# Altium footprint library IC.PcbLib: 99 footprints (part 2 of 7)
Each footprint in its own frame and in the unit in brackets; x right, y up, seen from the top. Pads: shape width x height; smd on the part's side, far side on the other; paste and mask are expansions set on the pad; w line width, h text height; cw(c..) or ccw(c..) is an arc to the next point about the centre after c.
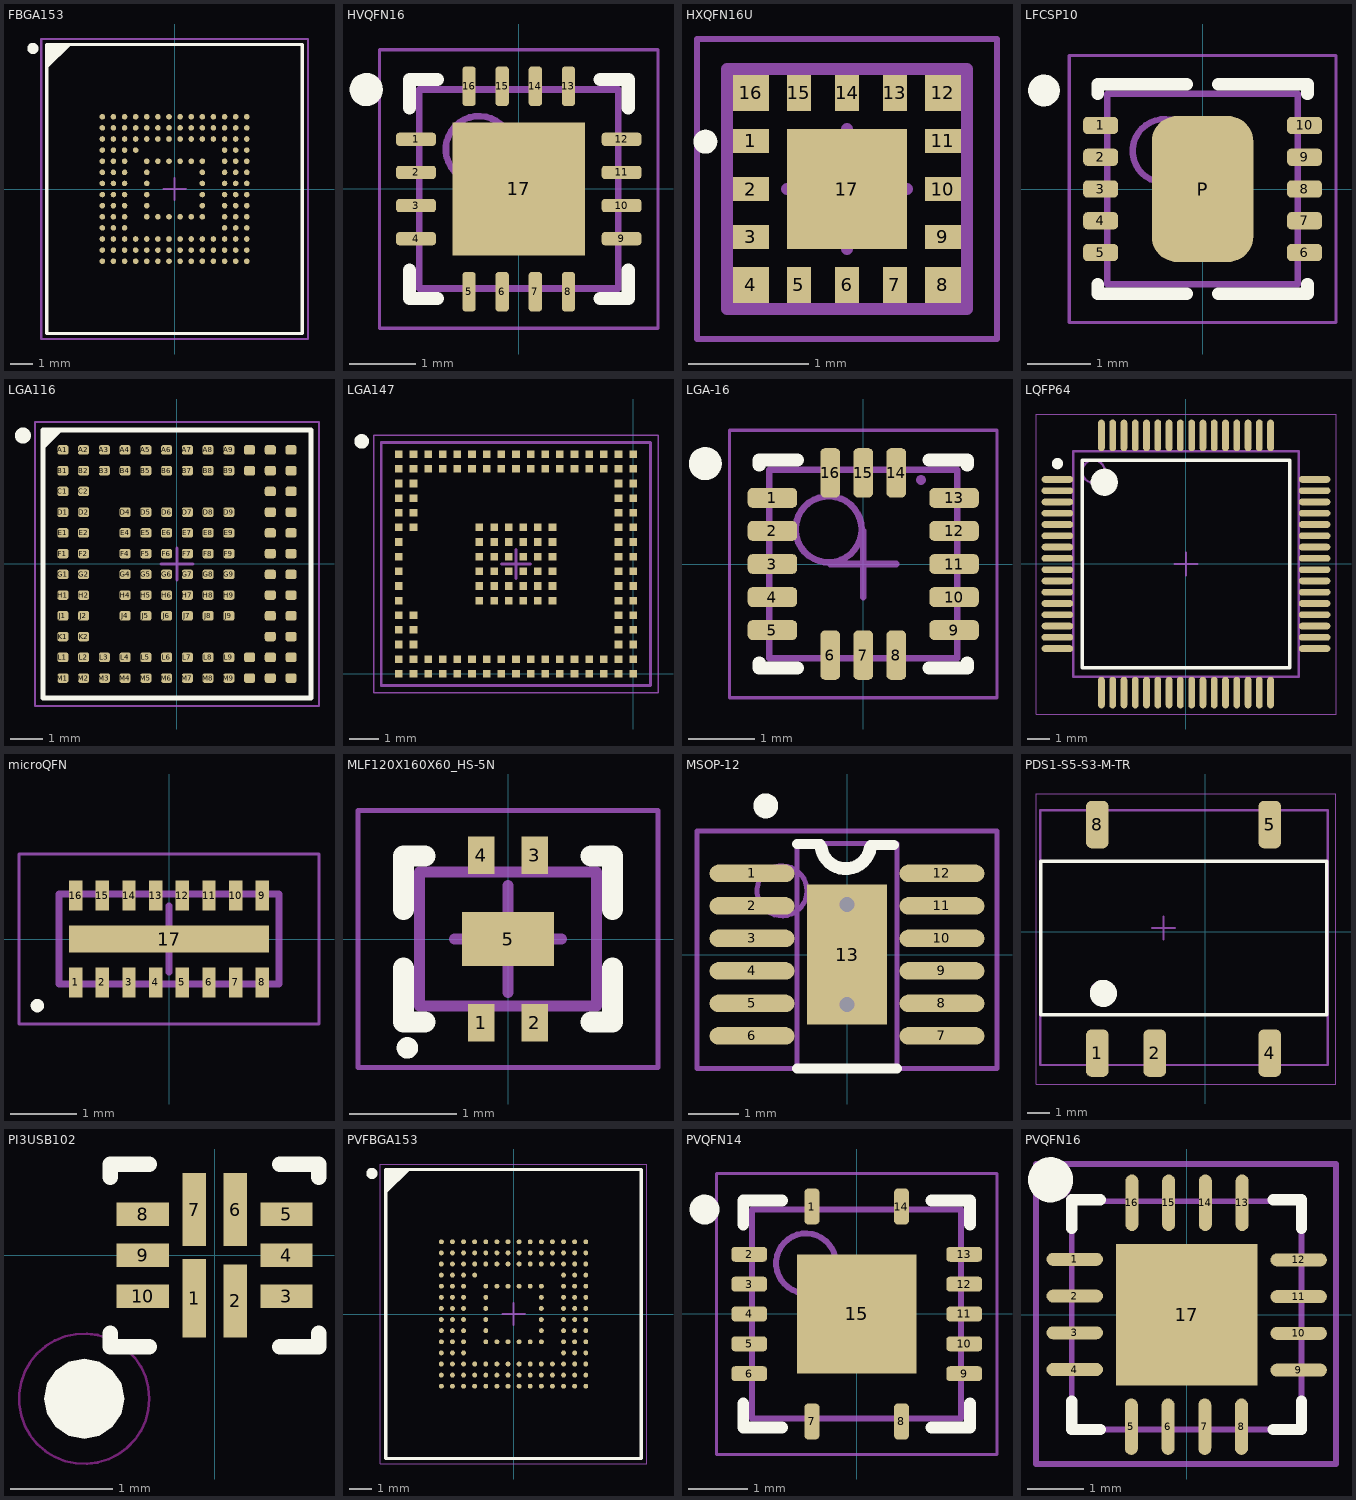
[diagram p1: the footprints below, top view; thin cyan lines are the x and y axes]

## FBGA153 [mm] "FBGA153  (11.5x13.0x1.0)"
height 0.9
pads (153):
  round 0.25 smd mask+0.08: A1(-3.25,3.25) A2(-2.75,3.25) A3(-2.25,3.25) A4(-1.75,3.25) A5(-1.25,3.25) A6(-0.75,3.25) A7(-0.25,3.25) A8(0.25,3.25) A9(0.75,3.25) A10(1.25,3.25) A11(1.75,3.25) A12(2.25,3.25) A13(2.75,3.25) A14(3.25,3.25) B1(-3.25,2.75) B2(-2.75,2.75) B3(-2.25,2.75) B4(-1.75,2.75) B5(-1.25,2.75) B6(-0.75,2.75) B7(-0.25,2.75) B8(0.25,2.75) B9(0.75,2.75) B10(1.25,2.75) B11(1.75,2.75) B12(2.25,2.75) B13(2.75,2.75) B14(3.25,2.75) C1(-3.25,2.25) C2(-2.75,2.25) C3(-2.25,2.25) C4(-1.75,2.25) C5(-1.25,2.25) C6(-0.75,2.25) C7(-0.25,2.25) C8(0.25,2.25) C9(0.75,2.25) C10(1.25,2.25) C11(1.75,2.25) C12(2.25,2.25) C13(2.75,2.25) C14(3.25,2.25) D1(-3.25,1.75) D2(-2.75,1.75) D3(-2.25,1.75) D4(-1.75,1.75) D12(2.25,1.75) D13(2.75,1.75) D14(3.25,1.75) E1(-3.25,1.25) E2(-2.75,1.25) E3(-2.25,1.25) E5(-1.25,1.25) E6(-0.75,1.25) E7(-0.25,1.25) E8(0.25,1.25) E9(0.75,1.25) E10(1.25,1.25) E12(2.25,1.25) E13(2.75,1.25) E14(3.25,1.25) F1(-3.25,0.75) F2(-2.75,0.75) F3(-2.25,0.75) F5(-1.25,0.75) F10(1.25,0.75) F12(2.25,0.75) F13(2.75,0.75) F14(3.25,0.75) G1(-3.25,0.25) G2(-2.75,0.25) G3(-2.25,0.25) G5(-1.25,0.25) G10(1.25,0.25) G12(2.25,0.25) G13(2.75,0.25) G14(3.25,0.25) H1(-3.25,-0.25) H2(-2.75,-0.25) H3(-2.25,-0.25) H5(-1.25,-0.25) H10(1.25,-0.25) H12(2.25,-0.25) H13(2.75,-0.25) H14(3.25,-0.25) J1(-3.25,-0.75) J2(-2.75,-0.75) J3(-2.25,-0.75) J5(-1.25,-0.75) J10(1.25,-0.75) J12(2.25,-0.75) J13(2.75,-0.75) J14(3.25,-0.75) K1(-3.25,-1.25) K2(-2.75,-1.25) K3(-2.25,-1.25) K5(-1.25,-1.25) K6(-0.75,-1.25) K7(-0.25,-1.25) K8(0.25,-1.25) K9(0.75,-1.25) K10(1.25,-1.25) K12(2.25,-1.25) K13(2.75,-1.25) K14(3.25,-1.25) L1(-3.25,-1.75) L2(-2.75,-1.75) L3(-2.25,-1.75) L12(2.25,-1.75) L13(2.75,-1.75) L14(3.25,-1.75) M1(-3.25,-2.25) M2(-2.75,-2.25) M3(-2.25,-2.25) M4(-1.75,-2.25) M5(-1.25,-2.25) M6(-0.75,-2.25) M7(-0.25,-2.25) M8(0.25,-2.25) M9(0.75,-2.25) M10(1.25,-2.25) M11(1.75,-2.25) M12(2.25,-2.25) M13(2.75,-2.25) M14(3.25,-2.25) N1(-3.25,-2.75) N2(-2.75,-2.75) N3(-2.25,-2.75) N4(-1.75,-2.75) N5(-1.25,-2.75) N6(-0.75,-2.75) N7(-0.25,-2.75) N8(0.25,-2.75) N9(0.75,-2.75) N10(1.25,-2.75) N11(1.75,-2.75) N12(2.25,-2.75) N13(2.75,-2.75) N14(3.25,-2.75) P1(-3.25,-3.25) P2(-2.75,-3.25) P3(-2.25,-3.25) P4(-1.75,-3.25) P5(-1.25,-3.25) P6(-0.75,-3.25) P7(-0.25,-3.25) P8(0.25,-3.25) P9(0.75,-3.25) P10(1.25,-3.25) P11(1.75,-3.25) P12(2.25,-3.25) P13(2.75,-3.25) P14(3.25,-3.25)
Top Overlay:
  circle w0.25: c-6.375,6.325 r0.125
  region: -4.75,6.5 -5.75,5.5 -5.75,6.5
  lines w0.15: -5.75,5.5 -4.75,6.5 ; -5.75,-6.5 5.75,-6.5 5.75,6.5 -5.75,6.5 -5.75,-6.5
Mechanical 13:
  lines w0.1: -5.75,-6.5 5.75,-6.5 5.75,6.5 -5.75,6.5 -5.75,-6.5
  text ".Designator" at -5.547,6.977 h0.5
Mechanical 15:
  lines w0.1: -0.5,0 0.5,0 ; 0,-0.5 0,0.5 ; -6,-6.75 6,-6.75 6,6.75 -6,6.75 -6,-6.75
3D body: height 0.9, standoff 0.2, extent -5.75,-6.5 5.75,6.5

## HVQFN16 [mm] "HVQFN16: plastic thermal enhanced very thin quad flat package; no leads;  16 terminals; body 3 x 3 x 0.85 mm"
height 1
pads (17):
  rrect50% 0.6x0.2 smd mask+0.1: 1(-1.55,0.75) 2(-1.55,0.25) 3(-1.55,-0.25) 4(-1.55,-0.75) 9(1.55,-0.75) 10(1.55,-0.25) 11(1.55,0.25) 12(1.55,0.75)
  rrect50% 0.2x0.6 smd mask+0.1: 5(-0.75,-1.55) 6(-0.25,-1.55) 7(0.25,-1.55) 8(0.75,-1.55) 13(0.75,1.55) 14(0.25,1.55) 15(-0.25,1.55) 16(-0.75,1.55)
  rect 2x2 smd: 17(0,0)
Top Overlay:
  circle w0.25: c-2.3,1.5 r0.125
  lines w0.2: -1.65,-1.225 -1.65,-1.65 -1.225,-1.65 ; -1.65,1.225 -1.65,1.65 -1.225,1.65 ; 1.225,-1.65 1.65,-1.65 1.65,-1.225 ; 1.225,1.65 1.65,1.65 1.65,1.225
Mechanical 13:
  circle w0.1: c-0.6,0.6 r0.5
  lines w0.1: -1.5,-1.5 1.5,-1.5 1.5,1.5 -1.5,1.5 -1.5,-1.5
  text ".Designator" at -1.889,2.303 h0.5
Mechanical 15:
  lines w0.05: -2.1,-2.1 2.1,-2.1 2.1,2.1 -2.1,2.1 -2.1,-2.1
  lines w0.1: -0.5,0 0.5,0 ; 0,-0.5 0,0.5
3D body: height 1, standoff 0.05, extent -1.5,-1.5 1.5,1.5

## HXQFN16U [mm] "HXQFN16U: plastic thermal enhanced extremely thin quad flat package"
height 0.5
pads (17):
  rect 0.3x0.2 smd mask+0.05: 1(-3.2,2.8) 2(-3.2,2.4) 3(-3.2,2) 9(-1.6,2) 10(-1.6,2.4) 11(-1.6,2.8)
  rect 0.3x0.3 smd mask+0.05: 4(-3.2,1.6) 8(-1.6,1.6) 12(-1.6,3.2) 16(-3.2,3.2)
  rect 0.2x0.3 smd mask+0.05: 5(-2.8,1.6) 6(-2.4,1.6) 7(-2,1.6) 13(-2,3.2) 14(-2.4,3.2) 15(-2.8,3.2)
  rect 1x1 smd mask+0.05: 17(-2.4,2.4)
Top Overlay:
  circle w0.1: c-3.581,2.794 r0.05
Mechanical 13:
  lines w0.1: -3.4,1.4 -1.4,1.4 -1.4,3.4 -3.4,3.4 -3.4,1.4
  text ".Designator" at -4.15,3.777 h0.5
Mechanical 15:
  lines w0.05: -3.65,1.15 -1.15,1.15 -1.15,3.65 -3.65,3.65 -3.65,1.15
  lines w0.1: -2.9,2.4 -1.9,2.4 ; -2.4,1.9 -2.4,2.9
3D body: height 0.5, standoff 0.02, extent -3.4,1.4 -1.4,3.4

## LFCSP10 [mm]
height 0.9
pads (11):
  rrect50% 0.55x0.27 smd mask+0.07: 1(-1.605,1) 2(-1.605,0.5) 3(-1.605,0) 4(-1.605,-0.5) 5(-1.605,-1) 6(1.605,-1) 7(1.605,-0.5) 8(1.605,0) 9(1.605,0.5) 10(1.605,1)
  rrect50% 1.6x2.3 smd mask+0.04: P(0,0)
Top Overlay:
  circle w0.25: c-2.497,1.55 r0.125
  lines w0.2: -1.65,-1.5 -1.65,-1.65 -0.25,-1.65 ; -1.65,1.5 -1.65,1.65 -0.25,1.65 ; 0.25,-1.65 1.65,-1.65 1.65,-1.5 ; 0.25,1.65 1.65,1.65 1.65,1.5
Mechanical 13:
  circle w0.1: c-0.6,0.6 r0.5
  lines w0.1: -1.5,-1.5 -1.5,1.5 1.5,1.5 1.5,-1.5 -1.5,-1.5
Mechanical 15:
  lines w0.05: -2.1,-2.1 -2.1,2.1 2.1,2.1 2.1,-2.1 -2.1,-2.1
  lines w0.1: -0.5,0 0.5,0 ; 0,-0.5 0,0.5
3D body: height 0.9, standoff 0.08, extent -1.5,-1.5 1.5,1.5

## LGA116 [mm] "AR6233 - LGA116"
height 1.16
pads (116):
  rrect50% 0.35x0.3 smd: A1(-3.575,3.575) A2(-2.925,3.575) A3(-2.275,3.575) A4(-1.625,3.575) A5(-0.975,3.575) A6(-0.325,3.575) A7(0.325,3.575) A8(0.975,3.575) A9(1.625,3.575) A10(2.275,3.575) A11(2.925,3.575) A12(3.575,3.575) B1(-3.575,2.925) B2(-2.925,2.925) B3(-2.275,2.925) B4(-1.625,2.925) B5(-0.975,2.925) B6(-0.325,2.925) B7(0.325,2.925) B8(0.975,2.925) B9(1.625,2.925) B10(2.275,2.925) B11(2.925,2.925) B12(3.575,2.925) C1(-3.575,2.275) C2(-2.925,2.275) C11(2.925,2.275) C12(3.575,2.275) D1(-3.575,1.625) D2(-2.925,1.625) D4(-1.625,1.625) D5(-0.975,1.625) D6(-0.325,1.625) D7(0.325,1.625) D8(0.975,1.625) D9(1.625,1.625) D11(2.925,1.625) D12(3.575,1.625) E1(-3.575,0.975) E2(-2.925,0.975) E4(-1.625,0.975) E5(-0.975,0.975) E6(-0.325,0.975) E7(0.325,0.975) E8(0.975,0.975) E9(1.625,0.975) E11(2.925,0.975) E12(3.575,0.975) F1(-3.575,0.325) F2(-2.925,0.325) F4(-1.625,0.325) F5(-0.975,0.325) F6(-0.325,0.325) F7(0.325,0.325) F8(0.975,0.325) F9(1.625,0.325) F11(2.925,0.325) F12(3.575,0.325) G1(-3.575,-0.325) G2(-2.925,-0.325) G4(-1.625,-0.325) G5(-0.975,-0.325) G6(-0.325,-0.325) G7(0.325,-0.325) G8(0.975,-0.325) G9(1.625,-0.325) G11(2.925,-0.325) G12(3.575,-0.325) H1(-3.575,-0.975) H2(-2.925,-0.975) H4(-1.625,-0.975) H5(-0.975,-0.975) H6(-0.325,-0.975) H7(0.325,-0.975) H8(0.975,-0.975) H9(1.625,-0.975) H11(2.925,-0.975) H12(3.575,-0.975) J1(-3.575,-1.625) J2(-2.925,-1.625) J4(-1.625,-1.625) J5(-0.975,-1.625) J6(-0.325,-1.625) J7(0.325,-1.625) J8(0.975,-1.625) J9(1.625,-1.625) J11(2.925,-1.625) J12(3.575,-1.625) K1(-3.575,-2.275) K2(-2.925,-2.275) K11(2.925,-2.275) K12(3.575,-2.275) L1(-3.575,-2.925) L2(-2.925,-2.925) L3(-2.275,-2.925) L4(-1.625,-2.925) L5(-0.975,-2.925) L6(-0.325,-2.925) L7(0.325,-2.925) L8(0.975,-2.925) L9(1.625,-2.925) L10(2.275,-2.925) L11(2.925,-2.925) L12(3.575,-2.925) M1(-3.575,-3.575) M2(-2.925,-3.575) M3(-2.275,-3.575) M4(-1.625,-3.575) M5(-0.975,-3.575) M6(-0.325,-3.575) M7(0.325,-3.575) M8(0.975,-3.575) M9(1.625,-3.575) M10(2.275,-3.575) M11(2.925,-3.575) M12(3.575,-3.575)
Top Overlay:
  circle w0.25: c-4.825,4.025 r0.125
  region: -3.657,4.2 -4.2,3.657 -4.2,4.2
  lines w0.15: -4.2,3.657 -3.657,4.2 ; -4.2,-4.2 -4.2,4.2 4.2,4.2 4.2,-4.2 -4.2,-4.2
Mechanical 13:
  lines w0.1: -4.2,-4.2 -4.2,4.2 4.2,4.2 4.2,-4.2 -4.2,-4.2
  text ".Designator" at -3.921,4.64 h0.5
Mechanical 15:
  lines w0.05: -4.45,-4.45 -4.45,4.45 4.45,4.45 4.45,-4.45 -4.45,-4.45
  lines w0.1: -0.5,0 0.5,0 ; 0,-0.5 0,0.5
3D body: height 1.16, standoff 0.44, extent -4.2,-4.2 4.2,4.2

## LGA147 [mm]
height 1.02
pads (147):
  rect 0.26x0.26 smd mask+0.05: A1(-8,7.5) A2(-7.5,7.5) A3(-7,7.5) A4(-6.5,7.5) A5(-6,7.5) A6(-5.5,7.5) A7(-5,7.5) A8(-4.5,7.5) A9(-4,7.5) A10(-3.5,7.5) A11(-3,7.5) A12(-2.5,7.5) A13(-2,7.5) A14(-1.5,7.5) A15(-1,7.5) A16(-0.5,7.5) A17(0,7.5) B1(-8,7) B2(-7.5,7) B3(-7,7) B4(-6.5,7) B5(-6,7) B6(-5.5,7) B7(-5,7) B8(-4.5,7) B9(-4,7) B10(-3.5,7) B11(-3,7) B12(-2.5,7) B13(-2,7) B14(-1.5,7) B15(-1,7) B16(-0.5,7) B17(0,7) C1(-8,6.5) C2(-7.5,6.5) C16(-0.5,6.5) C17(0,6.5) D1(-8,6) D2(-7.5,6) D16(-0.5,6) D17(0,6) E1(-8,5.5) E2(-7.5,5.5) E16(-0.5,5.5) E17(0,5.5) E_GND1(-5.248,5) E_GND2(-4.748,5) E_GND3(-4.248,5) E_GND4(-3.754,5) E_GND5(-3.254,5) E_GND6(-2.754,5) E_GND7(-5.248,4.5) E_GND8(-4.748,4.5) E_GND9(-4.248,4.5) E_GND10(-3.754,4.5) E_GND11(-3.254,4.5) E_GND12(-2.754,4.5) E_GND13(-5.248,4) E_GND14(-4.748,4) E_GND15(-4.248,4) E_GND16(-3.754,4) E_GND17(-3.254,4) E_GND18(-2.754,4) E_GND19(-5.248,3.5) E_GND20(-4.748,3.5) E_GND21(-4.248,3.5) E_GND22(-3.754,3.5) E_GND23(-3.254,3.5) E_GND24(-2.754,3.5) E_GND25(-5.248,3) E_GND26(-4.748,3) E_GND27(-4.248,3) E_GND28(-3.754,3) E_GND29(-3.254,3) E_GND30(-2.754,3) E_GND31(-5.248,2.5) E_GND32(-4.748,2.5) E_GND33(-4.248,2.5) E_GND34(-3.754,2.5) E_GND35(-3.254,2.5) E_GND36(-2.754,2.5) F1(-8,5) F2(-7.5,5) F16(-0.5,5) F17(0,5) G1(-8,4.5) G16(-0.5,4.5) G17(0,4.5) H1(-8,4) H16(-0.5,4) H17(0,4) J1(-8,3.5) J16(-0.5,3.5) J17(0,3.5) K1(-8,3) K16(-0.5,3) K17(0,3) L1(-8,2.5) L16(-0.5,2.5) L17(0,2.5) M1(-8,2) M2(-7.5,2) M16(-0.5,2) M17(0,2) N1(-8,1.5) N2(-7.5,1.5) N16(-0.5,1.5) N17(0,1.5) P1(-8,1) P2(-7.5,1) P16(-0.5,1) P17(0,1) R1(-8,0.5) R2(-7.5,0.5) R3(-7,0.5) R4(-6.5,0.5) R5(-6,0.5) R6(-5.5,0.5) R7(-5,0.5) R8(-4.5,0.5) R9(-4,0.5) R10(-3.5,0.5) R11(-3,0.5) R12(-2.5,0.5) R13(-2,0.5) R14(-1.5,0.5) R15(-1,0.5) R16(-0.5,0.5) R17(0,0.5) T1(-8,0) T2(-7.5,0) T3(-7,0) T4(-6.5,0) T5(-6,0) T6(-5.5,0) T7(-5,0) T8(-4.5,0) T9(-4,0) T10(-3.5,0) T11(-3,0) T12(-2.5,0) T13(-2,0) T14(-1.5,0) T15(-1,0) T16(-0.5,0) T17(0,0)
Top Overlay:
  circle w0.25: c-9.269,7.938 r0.125
Mechanical 13:
  lines w0.1: -8.6,-0.4 -8.6,7.9 0.6,7.9 0.6,-0.4 -8.6,-0.4
Mechanical 15:
  lines w0.05: -8.85,-0.65 -8.85,8.15 0.85,8.15 0.85,-0.65 -8.85,-0.65
  lines w0.1: -4.5,3.75 -3.5,3.75 ; -4,3.25 -4,4.25
3D body: height 1.02, standoff 0.32, extent -8.6,-0.4 0.6,7.9

## LGA-16 [mm]
height 1
pads (16):
  rrect50% 0.75x0.3 smd paste+0.05 mask+0: 1(-1.375,1) 2(-1.375,0.5) 3(-1.375,0) 4(-1.375,-0.5) 5(-1.375,-1) 9(1.375,-1) 10(1.375,-0.5) 11(1.375,0) 12(1.375,0.5) 13(1.375,1)
  rrect50% 0.3x0.75 smd paste+0.05 mask+0: 6(-0.5,-1.379) 7(0,-1.379) 8(0.5,-1.379) 14(0.5,1.379) 15(0,1.379) 16(-0.5,1.379)
Top Overlay:
  circle w0.25: c-2.393,1.52 r0.125
  lines w0.2: -1.575,-1.5 -1.575,-1.575 -1,-1.575 ; -1.575,1.5 -1.575,1.575 -1,1.575 ; 1,-1.575 1.575,-1.575 1.575,-1.5 ; 1,1.575 1.575,1.575 1.575,1.5
Mechanical 13:
  circle w0.1: c-0.525,0.525 r0.5
  lines w0.1: -1.425,-1.425 1.425,-1.425 1.425,1.425 -1.425,1.425 -1.425,-1.425
Mechanical 15:
  lines w0.05: -2.025,-2.025 2.025,-2.025 2.025,2.025 -2.025,2.025 -2.025,-2.025
  lines w0.1: -0.5,0 0.5,0 ; 0,-0.5 0,0.5
  lines w0.15: 0.875,1.275 0.875,1.275
3D body: height 1, standoff 0.05, extent -1.425,-1.425 1.425,1.425

## LQFP64 [mm]
height 1.6
pads (64):
  oval 1.4x0.3 smd mask+0: 1(-5.7,3.75) 2(-5.7,3.25) 3(-5.7,2.75) 4(-5.7,2.25) 5(-5.7,1.75) 6(-5.7,1.25) 7(-5.7,0.75) 8(-5.7,0.25) 9(-5.7,-0.25) 10(-5.7,-0.75) 11(-5.7,-1.25) 12(-5.7,-1.75) 13(-5.7,-2.25) 14(-5.7,-2.75) 15(-5.7,-3.25) 16(-5.7,-3.75) 33(5.7,-3.75) 34(5.7,-3.25) 35(5.7,-2.75) 36(5.7,-2.25) 37(5.7,-1.75) 38(5.7,-1.25) 39(5.7,-0.75) 40(5.7,-0.25) 41(5.7,0.25) 42(5.7,0.75) 43(5.7,1.25) 44(5.7,1.75) 45(5.7,2.25) 46(5.7,2.75) 47(5.7,3.25) 48(5.7,3.75)
  oval 0.3x1.4 smd mask+0: 17(-3.75,-5.7) 18(-3.25,-5.7) 19(-2.75,-5.7) 20(-2.25,-5.7) 21(-1.75,-5.7) 22(-1.25,-5.7) 23(-0.75,-5.7) 24(-0.25,-5.7) 25(0.25,-5.7) 26(0.75,-5.7) 27(1.25,-5.7) 28(1.75,-5.7) 29(2.25,-5.7) 30(2.75,-5.7) 31(3.25,-5.7) 32(3.75,-5.7) 49(3.75,5.7) 50(3.25,5.7) 51(2.75,5.7) 52(2.25,5.7) 53(1.75,5.7) 54(1.25,5.7) 55(0.75,5.7) 56(0.25,5.7) 57(-0.25,5.7) 58(-0.75,5.7) 59(-1.25,5.7) 60(-1.75,5.7) 61(-2.25,5.7) 62(-2.75,5.7) 63(-3.25,5.7) 64(-3.75,5.7)
Top Overlay:
  circle w0.25: c-5.7,4.45 r0.125
  circle w0.6: c-3.625,3.625 r0.3
  lines w0.15: -4.6,-4.6 -4.6,4.6 4.6,4.6 4.6,-4.6 -4.6,-4.6
Mechanical 13:
  circle w0.1: c-4.1,4.1 r0.5
  lines w0.1: -5,-5 -5,5 5,5 5,-5 -5,-5
Mechanical 15:
  lines w0.05: -6.65,-6.65 -6.65,6.65 6.65,6.65 6.65,-6.65 -6.65,-6.65
  lines w0.1: -0.5,0 0.5,0 ; 0,-0.5 0,0.5
3D body: height 1.6, standoff 0, extent -6.005,-6 5.995,6

## microQFN [mm] "8 lines IPAD low capacitance EMI filter and ESD protection in thin micro QFN"
height 0.45
pads (17):
  rect 0.2x0.45 smd mask+0.05: 1(-1.4,-0.65) 2(-1,-0.65) 3(-0.6,-0.65) 4(-0.2,-0.65) 5(0.2,-0.65) 6(0.6,-0.65) 7(1,-0.65) 8(1.4,-0.65) 9(1.4,0.65) 10(1,0.65) 11(0.6,0.65) 12(0.2,0.65) 13(-0.2,0.65) 14(-0.6,0.65) 15(-1,0.65) 16(-1.4,0.65)
  rect 3x0.4 smd mask+0.05: 17(0,0)
Top Overlay:
  circle w0.1: c-1.975,-1 r0.05
Mechanical 13:
  lines w0.1: -1.65,-0.675 1.65,-0.675 1.65,0.675 -1.65,0.675 -1.65,-0.675
  text ".Designator" at -1.635,1.186 h0.5
Mechanical 15:
  lines w0.05: -2.25,-1.275 2.25,-1.275 2.25,1.275 -2.25,1.275 -2.25,-1.275
  lines w0.1: -0.5,0 0.5,0 ; 0,-0.5 0,0.5
3D body: height 0.45, standoff 0.02, extent -1.65,-0.675 1.65,0.675

## MLF120X160X60_HS-5N [mm] "MLF, 4-Leads, Body 1.20x1.60mm, Pitch 0.50mm, Thermal Pad 0.86x0.50mm, IPC Medium Density"
height 0.6
pads (5):
  rect 0.25x0.35 smd mask+0.05: 1(-0.25,-0.78) 2(0.25,-0.78) 3(0.25,0.78) 4(-0.25,0.78)
  rect 0.86x0.5 smd: 5(0,0)
Top Overlay:
  circle w0.1: c-0.939,-1.016 r0.05
  lines w0.2: -0.975,-0.275 -0.975,-0.775 -0.775,-0.775 ; -0.975,0.275 -0.975,0.775 -0.775,0.775 ; 0.775,-0.775 0.975,-0.775 0.975,-0.275 ; 0.775,0.775 0.975,0.775 0.975,0.275
Mechanical 13:
  lines w0.1: -0.825,-0.625 0.825,-0.625 0.825,0.625 -0.825,0.625 -0.825,-0.625
  text ".Designator" at -1.787,1.237 h0.5
Mechanical 15:
  lines w0.05: -1.4,-1.2 1.4,-1.2 1.4,1.2 -1.4,1.2 -1.4,-1.2
  lines w0.1: -0.5,0 0.5,0 ; 0,-0.5 0,0.5
3D body: height 0.6, standoff 0.05, extent -0.825,-0.625 0.825,0.625

## MSOP-12 [mm]
height 1.2
pads (13):
  oval 1.7x0.35 smd: 1(-1.9,1.625) 2(-1.9,0.975) 3(-1.9,0.325) 4(-1.9,-0.325) 5(-1.9,-0.975) 6(-1.9,-1.625) 7(1.9,-1.625) 8(1.9,-0.975) 9(1.9,-0.325) 10(1.9,0.325) 11(1.9,0.975) 12(1.9,1.625)
  rect 1.6x2.8 smd paste-5 mask-5: 13(0,0)
via 0,-1 diameter 0.6 hole 0.3
via 0,1 diameter 0.6 hole 0.3
Top Overlay:
  circle w0.25: c-1.625,2.975 r0.125
  lines w0.2: -1,-2.275 1,-2.275 ; -1,2.21 -0.533,2.21 ; 0.474,2.195 0.941,2.195
  lines w0.254: -0.518,2.132 ccw(c-0.025,2.22) 0.468,2.14
Top Paste:
  region: -0.787,1.397 -0.787,-1.397 -0.279,-1.397 -0.279,-0.711 0.279,-0.711 0.279,-1.397 0.813,-1.397 0.813,1.397 0.279,1.397 0.279,0.711 -0.305,0.711 -0.305,1.397
Top Solder:
  region: -0.787,1.397 -0.787,-1.397 -0.279,-1.397 -0.279,-0.711 0.279,-0.711 0.279,-1.397 0.813,-1.397 0.813,1.397 0.279,1.397 0.279,0.711 -0.305,0.711 -0.305,1.397
Mechanical 13:
  circle w0.1: c-1.3,1.275 r0.5
  lines w0.1: -1,-2.275 -1,2.225 1,2.225 1,-2.275 -1,-2.275
  text ".Designator" at -1.854,2.565 h0.5
Mechanical 15:
  lines w0.1: -0.5,0 0.5,0 ; 0,-0.5 0,0.5 ; -3,-2.275 -3,2.475 3,2.475 3,-2.275 -3,-2.275
3D body: height 1.2, standoff 0.1, extent -1,-2.275 1,2.225

## PDS1-S5-S3-M-TR [mm] "DC/DC CONVERTER +/-5V 1W"
height 2.65
pads (5):
  rrect50% 1x2.1 smd: 1(-4.77,-5.37) 2(-2.23,-5.37) 4(2.85,-5.37) 5(2.85,4.73) 8(-4.77,4.73)
Top Overlay:
  circle w0.6: c-4.505,-2.73 r0.3
  lines w0.15: -7.27,-3.68 -7.27,3.11 5.365,3.11 5.365,-3.68 -7.27,-3.68
Mechanical 13:
  circle w0.1: c-4.555,-2.695 r0.5
  lines w0.1: -7.295,-5.89 -7.295,5.36 5.41,5.36 5.41,-5.89 -7.295,-5.89
Mechanical 15:
  lines w0.05: -7.48,6.095 -7.48,-6.75 5.775,-6.75 5.775,6.095 -7.475,6.095
  lines w0.1: -2.345,0.155 -1.345,0.155 ; -1.845,-0.345 -1.845,0.655
3D body: height 7, standoff -0.25, extent -7.31,-5.897 5.39,5.347

## PI3USB102 [mil] "PI3USB102"
pads (10):
  rect 9x30 smd mask+1.97: 1(-7.87,-16.5)
  rect 9x28 smd mask+1.97: 2(7.87,-17.5) 6(7.87,17.5) 7(-7.87,17.5)
  rect 20x9 smd mask+1.97: 3(27.56,-15.75) 4(27.56,0) 5(27.56,15.75) 8(-27.56,15.75) 9(-27.56,0) 10(-27.56,-15.75)
Top Layer keep-out:
  circle w1: c-50,-55 r25
Top Overlay:
  pour cut-out: -50,-70.29 -44.15,-69.13 -39.19,-65.81 -35.87,-60.85 -34.71,-55 -35.87,-49.15 -39.19,-44.19 -44.15,-40.87 -50,-39.71 -55.85,-40.87 -60.81,-44.19 -64.13,-49.15 -65.29,-55 -64.13,-60.85 -60.81,-65.81 -55.85,-69.13
  lines w6: -40,-30 -40,-35 -25,-35 ; -40,30 -40,35 -25,35 ; 25,-35 40,-35 40,-30 ; 25,35 40,35 40,30
Top Solder:
  pour cut-out: -40.06,-22.75 -40.06,22.75 40.06,22.75 40.06,-22.75
  pour cut-out: -14.87,-32.25 -14.87,32.25 14.87,32.25 14.87,-32.25
Mechanical 13:
  text ".Designator" at -69.37,44.69 h19.68

## PVFBGA153 [mm] "BGA, 153-Leads, Body 11,50x13,00mmx0,90mm, Pitch 0,50mm"
height 0.9
pads (153):
  round 0.22 smd mask+0.08: A1(-3.25,3.25) A2(-2.75,3.25) A3(-2.25,3.25) A4(-1.75,3.25) A5(-1.25,3.25) A6(-0.75,3.25) A7(-0.25,3.25) A8(0.25,3.25) A9(0.75,3.25) A10(1.25,3.25) A11(1.75,3.25) A12(2.25,3.25) A13(2.75,3.25) A14(3.25,3.25) B1(-3.25,2.75) B2(-2.75,2.75) B3(-2.25,2.75) B4(-1.75,2.75) B5(-1.25,2.75) B6(-0.75,2.75) B7(-0.25,2.75) B8(0.25,2.75) B9(0.75,2.75) B10(1.25,2.75) B11(1.75,2.75) B12(2.25,2.75) B13(2.75,2.75) B14(3.25,2.75) C1(-3.25,2.25) C2(-2.75,2.25) C3(-2.25,2.25) C4(-1.75,2.25) C5(-1.25,2.25) C6(-0.75,2.25) C7(-0.25,2.25) C8(0.25,2.25) C9(0.75,2.25) C10(1.25,2.25) C11(1.75,2.25) C12(2.25,2.25) C13(2.75,2.25) C14(3.25,2.25) D1(-3.25,1.75) D2(-2.75,1.75) D3(-2.25,1.75) D4(-1.75,1.75) D12(2.25,1.75) D13(2.75,1.75) D14(3.25,1.75) E1(-3.25,1.25) E2(-2.75,1.25) E3(-2.25,1.25) E5(-1.25,1.25) E6(-0.75,1.25) E7(-0.25,1.25) E8(0.25,1.25) E9(0.75,1.25) E10(1.25,1.25) E12(2.25,1.25) E13(2.75,1.25) E14(3.25,1.25) F1(-3.25,0.75) F2(-2.75,0.75) F3(-2.25,0.75) F5(-1.25,0.75) F10(1.25,0.75) F12(2.25,0.75) F13(2.75,0.75) F14(3.25,0.75) G1(-3.25,0.25) G2(-2.75,0.25) G3(-2.25,0.25) G5(-1.25,0.25) G10(1.25,0.25) G12(2.25,0.25) G13(2.75,0.25) G14(3.25,0.25) H1(-3.25,-0.25) H2(-2.75,-0.25) H3(-2.25,-0.25) H5(-1.25,-0.25) H10(1.25,-0.25) H12(2.25,-0.25) H13(2.75,-0.25) H14(3.25,-0.25) J1(-3.25,-0.75) J2(-2.75,-0.75) J3(-2.25,-0.75) J5(-1.25,-0.75) J10(1.25,-0.75) J12(2.25,-0.75) J13(2.75,-0.75) J14(3.25,-0.75) K1(-3.25,-1.25) K2(-2.75,-1.25) K3(-2.25,-1.25) K5(-1.25,-1.25) K6(-0.75,-1.25) K7(-0.25,-1.25) K8(0.25,-1.25) K9(0.75,-1.25) K10(1.25,-1.25) K12(2.25,-1.25) K13(2.75,-1.25) K14(3.25,-1.25) L1(-3.25,-1.75) L2(-2.75,-1.75) L3(-2.25,-1.75) L12(2.25,-1.75) L13(2.75,-1.75) L14(3.25,-1.75) M1(-3.25,-2.25) M2(-2.75,-2.25) M3(-2.25,-2.25) M4(-1.75,-2.25) M5(-1.25,-2.25) M6(-0.75,-2.25) M7(-0.25,-2.25) M8(0.25,-2.25) M9(0.75,-2.25) M10(1.25,-2.25) M11(1.75,-2.25) M12(2.25,-2.25) M13(2.75,-2.25) M14(3.25,-2.25) N1(-3.25,-2.75) N2(-2.75,-2.75) N3(-2.25,-2.75) N4(-1.75,-2.75) N5(-1.25,-2.75) N6(-0.75,-2.75) N7(-0.25,-2.75) N8(0.25,-2.75) N9(0.75,-2.75) N10(1.25,-2.75) N11(1.75,-2.75) N12(2.25,-2.75) N13(2.75,-2.75) N14(3.25,-2.75) P1(-3.25,-3.25) P2(-2.75,-3.25) P3(-2.25,-3.25) P4(-1.75,-3.25) P5(-1.25,-3.25) P6(-0.75,-3.25) P7(-0.25,-3.25) P8(0.25,-3.25) P9(0.75,-3.25) P10(1.25,-3.25) P11(1.75,-3.25) P12(2.25,-3.25) P13(2.75,-3.25) P14(3.25,-3.25)
Top Overlay:
  circle w0.25: c-6.375,6.325 r0.125
  region: -4.75,6.5 -5.75,5.5 -5.75,6.5
  lines w0.15: -5.75,5.5 -4.75,6.5 ; -5.75,-6.5 5.75,-6.5 5.75,6.5 -5.75,6.5 -5.75,-6.5
Mechanical 13:
  lines w0.1: -5.75,-6.5 5.75,-6.5 5.75,6.5 -5.75,6.5 -5.75,-6.5
  text ".Designator" at -4.251,7.079 h0.5
Mechanical 15:
  lines w0.05: -6,-6.75 6,-6.75 6,6.75 -6,6.75 -6,-6.75
  lines w0.1: -0.5,0 0.5,0 ; 0,-0.5 0,0.5
3D body: height 0.9, standoff 0.22, extent -5.75,-6.5 5.75,6.5

## PVQFN14 [mm]
height 1
pads (15):
  rrect50% 0.25x0.6 smd mask+0.09: 1(-0.75,1.8) 7(-0.75,-1.8) 8(0.75,-1.8) 14(0.75,1.8)
  rrect50% 0.6x0.25 smd mask+0.09: 2(-1.8,1) 3(-1.8,0.5) 4(-1.8,0) 5(-1.8,-0.5) 6(-1.8,-1) 9(1.8,-1) 10(1.8,-0.5) 11(1.8,0) 12(1.8,0.5) 13(1.8,1)
  rect 2x2 smd mask+0.09: 15(0,0)
Top Overlay:
  circle w0.25: c-2.55,1.75 r0.125
  lines w0.2: -1.9,-1.5 -1.9,-1.9 -1.25,-1.9 ; -1.9,1.5 -1.9,1.9 -1.25,1.9 ; 1.25,-1.9 1.9,-1.9 1.9,-1.5 ; 1.25,1.9 1.9,1.9 1.9,1.5
Mechanical 13:
  circle w0.1: c-0.85,0.85 r0.5
  lines w0.1: -1.75,-1.75 1.75,-1.75 1.75,1.75 -1.75,1.75 -1.75,-1.75
  text ".Designator" at -1.864,2.481 h0.5
Mechanical 15:
  lines w0.05: -2.35,-2.35 2.35,-2.35 2.35,2.35 -2.35,2.35 -2.35,-2.35
  lines w0.1: -0.5,0 0.5,0 ; 0,-0.5 0,0.5
3D body: height 1, standoff 0.05, extent -1.75,-1.75 1.75,1.75

## PVQFN16 [mm] "PVQFN16"
height 1.2
pads (17):
  oval 1x0.23 smd: 1(-1.981,0.98) 2(-1.981,0.33) 3(-1.981,-0.32) 4(-1.981,-0.97) 9(1.981,-0.98) 10(1.981,-0.33) 11(1.981,0.32) 12(1.981,0.97)
  oval 0.23x1 smd: 5(-0.98,-1.981) 6(-0.33,-1.981) 7(0.32,-1.981) 8(0.97,-1.981) 13(0.98,1.981) 14(0.33,1.981) 15(-0.32,1.981) 16(-0.97,1.981)
  rect 2.5x2.5 smd paste-50 mask-50: 17(0,0)
Top Overlay:
  circle w0.4: c-2.41,2.388 r0.2
  lines w0.2: -2.032,-1.532 -2.032,-2.032 -1.532,-2.032 ; -2.032,1.532 -2.032,2.032 -1.532,2.032 ; 1.532,-2.032 2.032,-2.032 2.032,-1.532 ; 1.532,2.032 2.032,2.032 2.032,1.532
Top Paste:
  region: -0.356,0.356 -0.356,1.219 -1.219,1.219 -1.219,0.356
  rectangle: 0.356,0.356 1.219,1.219
  region: 0.356,-0.356 0.356,-1.219 1.219,-1.219 1.219,-0.356
  region: -0.356,-0.356 -1.219,-0.356 -1.219,-1.219 -0.356,-1.219
Top Solder:
  region: -0.229,-0.229 -1.219,-0.229 -1.219,-1.232 -0.229,-1.232
  region: 0.254,-0.229 0.254,-1.232 1.219,-1.232 1.219,-0.229
  rectangle: 0.254,0.229 1.219,1.207
  region: -0.229,0.229 -0.229,1.207 -1.219,1.207 -1.219,0.229
Mechanical 13:
  circle w0.1: c-2.286,2.285 r0.2
  lines w0.1: -2.032,-2.032 -2.032,2.007 2.032,2.007 2.032,-2.032 -2.032,-2.032
  text ".Designator" at -1.889,2.837 h0.5
  text ".Designator" at -1.6,-0.05 h0.5
Mechanical 15:
  lines w0.1: -0.5,0 0.5,0 ; 0,-0.5 0,0.5 ; -2.667,-2.642 -2.667,2.667 2.642,2.667 2.642,-2.642 -2.667,-2.642
3D body: height 1.2, standoff 0, extent -2.032,-2.032 2.032,2.007